# Altium schematic symbol library MAX9919NASA&plus_T.SchLib: 1 symbol
Pins are listed as number, name and electrical type; pins without a type are passive.

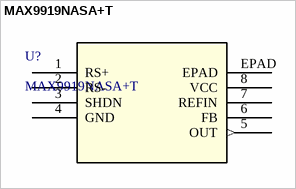
[diagram p0: symbol MAX9919NASA+T]

## MAX9919NASA+T
designator U?
-20V to +75V Input Range, Precision Uni-/Bidirectional, Current-Sense Amplifiers; Manufacturer_Name: Analog Devices / Maxim Integrated; Copyright: Copyright (C) 2026 Ultra Librarian. All rights reserved.; Manufacturer_Part_Number: MAX9919NASA+T; RefDes: RefDes; Type: Type
footprint 21-0111D_S8E-14_MXM
pins: 1 RS+, 2 RS-, 3 SHDN, 4 GND (power), 5 OUT (out), 6 FB, 7 REFIN, 8 VCC (power), EPAD